# Altium schematic symbol library 1-1674231-1.SchLib: 1 symbol
Pins are listed as number, name and electrical type; pins without a type are passive.

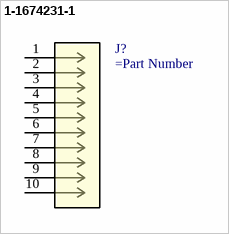
[diagram p0: symbol 1-1674231-1]

## 1-1674231-1
designator J?
Copyright: Copyright (C) 2025 Ultra Librarian. All rights reserved.
pins: 1, 2, 3, 4, 5, 6, 7, 8, 9, 10